# EAGLE library part NCP45524/25 (library transistor-fet)
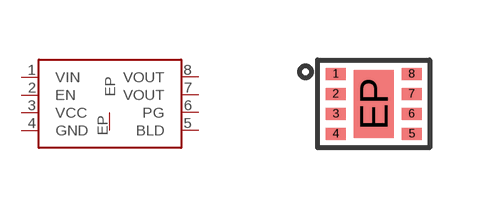
[diagram p11: symbol with the pads of DFN8; footprint DFN8]

Designator prefix -

## NCP45524/25  [DFN8]
1  VIN
2  EN
3  VCC
4  GND
5  BLD
6  PG
7  VOUT
8  VOUT
EP  EP

## Footprint DFN8 (pad centres in mm)
smd 0.5 x 0.3: 1 -0.95,0.75; 2 -0.95,0.25; 3 -0.95,-0.25; 4 -0.95,-0.75; 5 0.95,-0.75; 6 0.95,-0.25; 7 0.95,0.25; 8 0.95,0.75
smd 1 x 1.7: EP 0,0